# Altium schematic symbol library CMP-001-00012-1.Schlib: 1 symbol
Pins are listed as number, name and electrical type; pins without a type are passive.

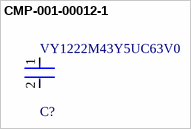
[diagram p0: symbol CMP-001-00012-1]

## CMP-001-00012-1
designator C?, comment VY1222M43Y5UC63V0
Ceramic Suppression Capacitor, 2200 pF, ± 400%, X1 / Y1, 760 Vac, 50000000000 Vac, Radial Leaded
footprint FP-VY143-MFG
pins: 1, 2